# Altium footprint library StandartLogic.PcbLib: 4 footprints
Each footprint in its own frame and in the unit in brackets; x right, y up, seen from the top. Pads: shape width x height; smd on the part's side, far side on the other; paste and mask are expansions set on the pad; w line width, h text height; cw(c..) or ccw(c..) is an arc to the next point about the centre after c.
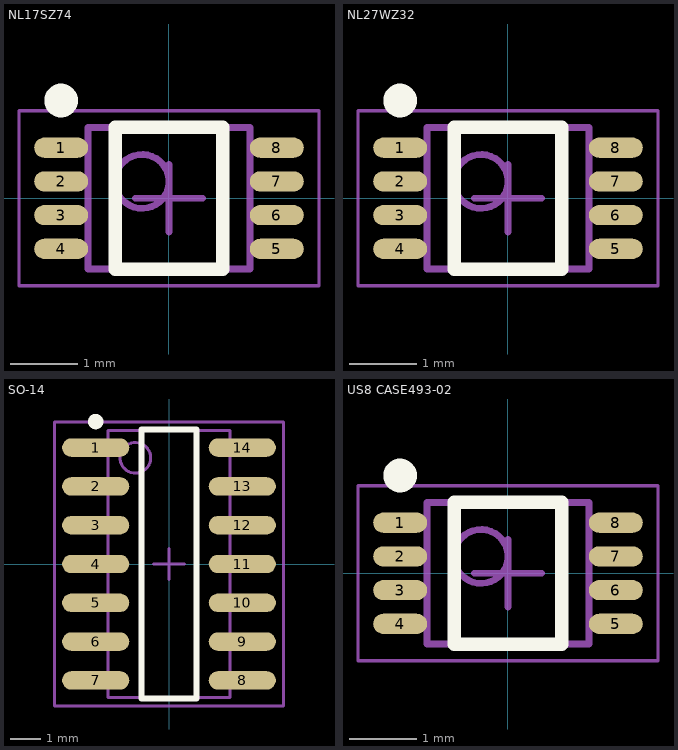
[diagram p0: the footprints below, top view; thin cyan lines are the x and y axes]

## NL17SZ74 [mm]
pads (8):
  oval 0.8x0.3 smd: 1(-1.6,0.75) 2(-1.6,0.25) 3(-1.6,-0.25) 4(-1.6,-0.75) 5(1.6,-0.75) 6(1.6,-0.25) 7(1.6,0.25) 8(1.6,0.75)
Top Overlay:
  circle w0.25: c-1.6,1.45 r0.125
  lines w0.2: -0.8,-1.05 0.8,-1.05 0.8,1.05 -0.8,1.05 -0.8,-1.05
Mechanical 13:
  circle w0.1: c-0.4,0.25 r0.4
  lines w0.1: -1.2,-1.05 1.2,-1.05 1.2,1.05 -1.2,1.05 -1.2,-1.05
Mechanical 15:
  lines w0.05: -2.225,-1.3 2.225,-1.3 2.225,1.3 -2.225,1.3 -2.225,-1.3
  lines w0.1: -0.5,0 0.5,0 ; 0,-0.5 0,0.5
3D body: height 0.9, standoff 0.1, extent -1.2,-1.05 1.2,1.05

## NL27WZ32 [mm]
pads (8):
  oval 0.8x0.3 smd: 1(-1.6,0.75) 2(-1.6,0.25) 3(-1.6,-0.25) 4(-1.6,-0.75) 5(1.6,-0.75) 6(1.6,-0.25) 7(1.6,0.25) 8(1.6,0.75)
Top Overlay:
  circle w0.25: c-1.6,1.45 r0.125
  lines w0.2: -0.8,-1.05 0.8,-1.05 0.8,1.05 -0.8,1.05 -0.8,-1.05
Mechanical 13:
  circle w0.1: c-0.4,0.25 r0.4
  lines w0.1: -1.2,-1.05 1.2,-1.05 1.2,1.05 -1.2,1.05 -1.2,-1.05
Mechanical 15:
  lines w0.05: -2.225,-1.3 2.225,-1.3 2.225,1.3 -2.225,1.3 -2.225,-1.3
  lines w0.1: -0.5,0 0.5,0 ; 0,-0.5 0,0.5
3D body: height 0.9, standoff 0.1, extent -1.2,-1.05 1.2,1.05

## SO-14 [mm]
pads (14):
  oval 2.2x0.6 smd: 1(-2.4,3.81) 2(-2.4,2.54) 3(-2.4,1.27) 4(-2.4,0) 5(-2.4,-1.27) 6(-2.4,-2.54) 7(-2.4,-3.81) 8(2.4,-3.81) 9(2.4,-2.54) 10(2.4,-1.27) 11(2.4,0) 12(2.4,1.27) 13(2.4,2.54) 14(2.4,3.81)
Top Overlay:
  circle w0.25: c-2.4,4.66 r0.125
  lines w0.2: -0.9,-4.4 -0.9,4.4 0.9,4.4 0.9,-4.4 -0.9,-4.4
Mechanical 13:
  circle w0.1: c-1.1,3.475 r0.5
  lines w0.1: -2,-4.375 -2,4.375 2,4.375 2,-4.375 -2,-4.375
Mechanical 15:
  lines w0.1: -0.5,0 0.5,0 ; 0,-0.5 0,0.5 ; -3.75,-4.65 -3.75,4.65 3.75,4.65 3.75,-4.65 -3.75,-4.65
3D body: height 1.75, standoff 0, extent -2,-4.375 2,4.375

## US8 CASE493-02 [mm]
height 0.9
pads (8):
  oval 0.8x0.3 smd: 1(-1.6,0.75) 2(-1.6,0.25) 3(-1.6,-0.25) 4(-1.6,-0.75) 5(1.6,-0.75) 6(1.6,-0.25) 7(1.6,0.25) 8(1.6,0.75)
Top Overlay:
  circle w0.25: c-1.6,1.45 r0.125
  lines w0.2: -0.8,-1.05 0.8,-1.05 0.8,1.05 -0.8,1.05 -0.8,-1.05
Mechanical 13:
  circle w0.1: c-0.4,0.25 r0.4
  lines w0.1: -1.2,-1.05 1.2,-1.05 1.2,1.05 -1.2,1.05 -1.2,-1.05
Mechanical 15:
  lines w0.05: -2.225,-1.3 2.225,-1.3 2.225,1.3 -2.225,1.3 -2.225,-1.3
  lines w0.1: -0.5,0 0.5,0 ; 0,-0.5 0,0.5
3D body: height 0.9, standoff 0.1, extent -1.2,-1.05 1.2,1.05